# EAGLE library part MC34063ABN (library ST Microelctronics_By_element14_Batch_1)
DC/DC converter control circuit
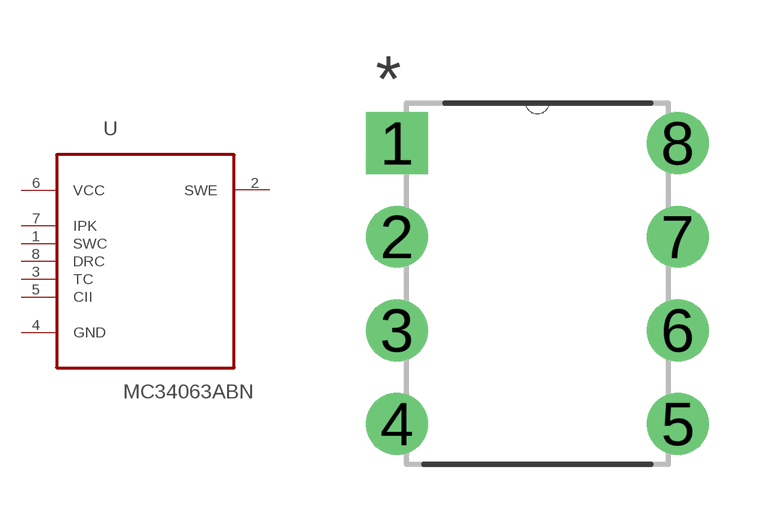
[diagram p280: symbol with the pads of DIP254P762X480-8; footprint DIP254P762X480-8]

Designator prefix U

## MC34063ABN (MPN: MC34063ABN; OC_FARNELL: 1077180; OC_NEWARK: 26M1409; PACKAGE: DIP-8; SUPPLIER: STMICROELECTRONICS)  [DIP254P762X480-8]
1  SWC  pas
2  SWE  pas
3  TC  pas
4  GND  pas
5  CII  pas
6  VCC  pwr
7  IPK  pas
8  DRC  pas

## Footprint DIP254P762X480-8 (pad centres in mm)
drill 1.118 square: 1 -7.62,7.62
drill 1.118: 2 -7.62,5.08; 3 -7.62,2.54; 4 -7.62,0; 5 0,0; 6 0,2.54; 7 0,5.08; 8 0,7.62